# Altium schematic symbol library Sika_revb.SchLib: 143 symbols (part 2 of 3)
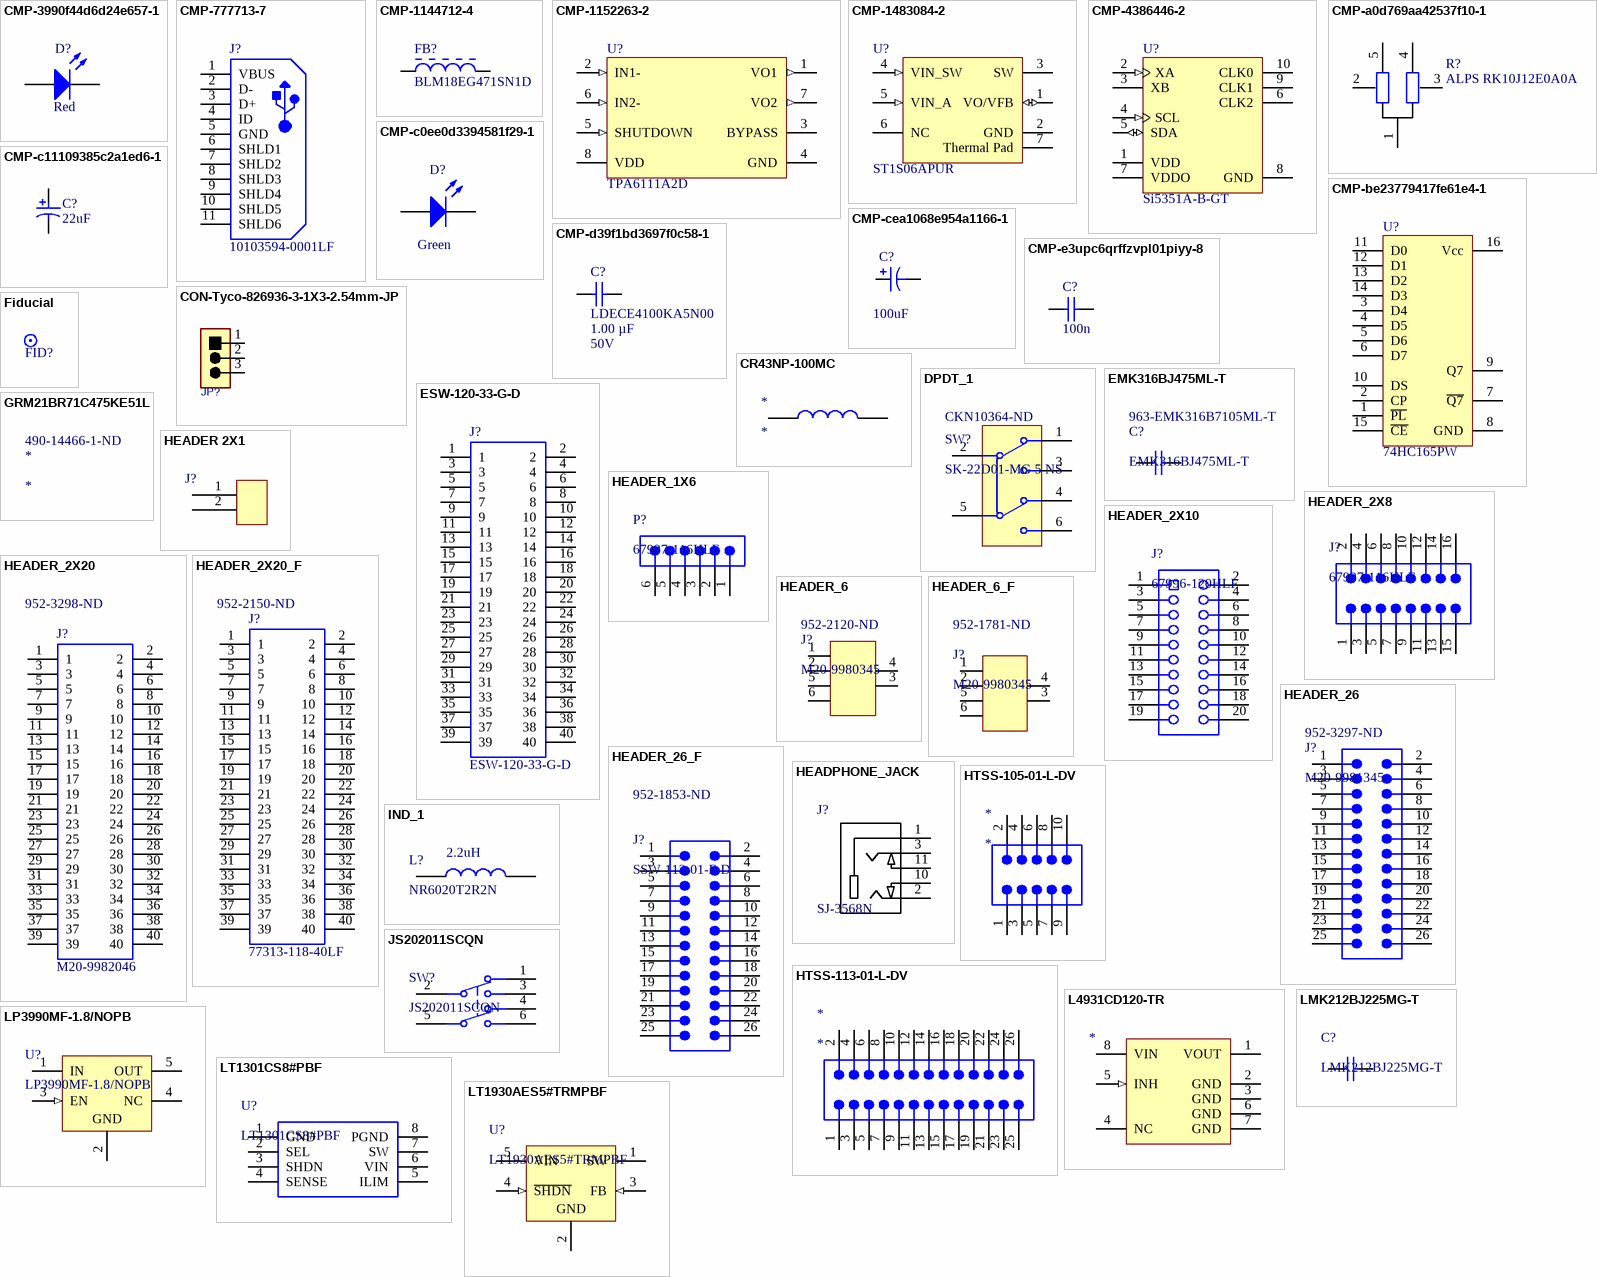
[diagram p5: symbols CMP-3990f44d6d24e657-1 to LT1930AES5#TRMPBF]

## ESW-120-33-G-D
designator J?
PC/104 Connectors 40P SOLDER TAIL 3.2MM PC104; Manufacturer_Name: 3M; Manufacturer_Part_Number: 4P01-2A02-DA; Allied_Number: 70114575; Geometry.Height: 11.2mm; RS Part Number: 8277403; RS Price/Stock: http://uk.rs-online.com/web/p/products/8277403; Allied Price/Stock: https://www.alliedelec.com/3m-4p01-2a02-da/70114575/; Arrow Part Number: 4P01-2A02-DA; Arrow Price/Stock: https://www.arrow.com/en/products/4p01-2a02-da/3m; Datasheet Link: http://multimedia.3m.com/mws/media/729589O/3mtm-conn-for-pc104-embedded-sys-apps-compliantbuscomp-cd2392.pdf; Supplier 1: Digi-Key; Supplier Part Number 1: SAM9012-ND
footprint ESW-120-33-G-D
pins: 1, 2, 3, 4, 5, 6, 7, 8, 9, 10, 11, 12, 13, 14, 15, 16, 17, 18, 19, 20, 21, 22, 23, 24, 25, 26, 27, 28, 29, 30, 31, 32, 33, 34, 35, 36, 37, 38, 39, 40

## Fiducial
designator FID?  (value not drawn)  (no BOM)
PCB fiducial; CustomComponentID: q3ryvo368y0cm8rjqvv4
footprint 2mm (PCB fiducial)

## GRM21BR71C475KE51L
designator *  Supplier Part Number 1: 490-14466-1-ND
CAP CER 4.7UF 16V X7R 0805; Manufacturer: Murata; Manufacturer Part Number: GRM21BR71C475KE51L; Tolerance: 10%; Supplier 1: Digi-Key; Stock 1: 39642; Pricing 1: 1 = 0,21000, 10 = 0,14200, 100 = 0,07210, 500 = 0,04934, 1000 = 0,04365 (USD); RoHS: No; Case/Package: 0805; Capacitance: 4.7uF; Dielectric: X7R; Voltage Rating (DC): 16V; Length: 2mm; Thickness: 1.25mm; Width: 1.25mm; ComponentLink1URL: http://www.farnell.com/datasheets/2189142.pdf?src-supplier=Farnell; ComponentLink1Description: http://www.farnell.com/datasheets/2189142.pdf?src-supplier=Farnell; ComponentLink2URL: http://search.murata.co.jp/Ceramy/image/img/A01X/G101/ENG/GRM21BR71C475KE51-01.pdf?src-supplier=Digi-Key; ComponentLink2Description: http://search.murata.co.jp/Ceramy/image/img/A01X/G101/ENG/GRM21BR71C475KE51-01.pdf?src-supplier=Digi-Key

## HEADER 2X1
designator J?
2.54 MM PITCH
footprint HDR2X1
pins: 1, 2

## HEADER_1X6
designator P?, comment 67997-116HLF
Unshrouded, Pitch 2.54 mm; Supplier 1: Digi-Key; Supplier 2: Mouser; Supplier Part Number 1: 609-3228-ND; Supplier Part Number 2: 649-67997-116HLF
footprint HEADER 1X6 MALE (2.54 MM)
footprint HEADER 1X6 JTAG (2.54 MM)
pins: 1, 2, 3, 4, 5, 6

## HEADER_2X8
designator J?, comment 67997-116HLF
Unshrouded, Pitch 2.54 mm; Supplier 1: Digi-Key; Supplier 2: Mouser; Supplier Part Number 1: 609-3228-ND; Supplier Part Number 2: 649-67997-116HLF
footprint header 16 male (unshrouded)
pins: 1, 2, 3, 4, 5, 6, 7, 8, 9, 10, 11, 12, 13, 14, 15, 16

## HEADER_2X10
designator J?, comment 67996-120HLF
Unshrouded, Pitch 2.54 mm; Supplier 1: Digi-Key; Supplier 2: Mouser; Supplier Part Number 1: 609-3206-ND; Supplier Part Number 2: 649-67996-120HLF
footprint HEADER 20 MALE (2.54 MM)
pins: 1, 2, 3, 4, 5, 6, 7, 8, 9, 10, 11, 12, 13, 14, 15, 16, 17, 18, 19, 20

## HEADER_2X20
designator J?, comment M20-9982046  Supplier Part Number 1: 952-3298-ND
Unshrouded, Pitch 2.54 mm, 6.1 mm Mating distance; Manufacturer_Name: 3M; Manufacturer_Part_Number: 4P01-2A02-DA; Manufacturer: Harwin; Allied_Number: 70114575; Geometry.Height: 11.2mm; Number of Positions: 40; Connector Type: Male Pin; Pitch: 0.1inch; Number of Contacts: 20; Max Current Rating: 3A; Contact Resistance: 25mR; Gender: Male; RS Part Number: 8277403; RS Price/Stock: http://uk.rs-online.com/web/p/products/8277403; Allied Price/Stock: https://www.alliedelec.com/3m-4p01-2a02-da/70114575/; Arrow Part Number: 4P01-2A02-DA; Arrow Price/Stock: https://www.arrow.com/en/products/4p01-2a02-da/3m; Datasheet Link: http://multimedia.3m.com/mws/media/729589O/3mtm-conn-for-pc104-embedded-sys-apps-compliantbuscomp-cd2392.pdf; Manufacturer Part Number: M20-9982046; RoHS: Yes; Mount: Through Hole; Weight: 0.083952oz; Color: Black; Contact Plating: Tin; Housing Material: Nylon; Package Quantity: 100; Number of Rows: 2; Packaging: Bulk; Termination: Solder; Row Spacing: 0.1inch; Contact Mating Length: 0.24inch; ComponentLink1URL: http://www.mouser.com/ds/2/181/Harwin_Product_Catalog_page_207-1131241.pdf?src-supplier=Mouser; ComponentLink1Description: http://www.mouser.com/ds/2/181/Harwin_Product_Catalog_page_207-1131241.pdf?src-supplier=Mouser; ComponentLink2URL: http://cdn.harwin.com/pdfs/60page147.pdf?src-supplier=Digi-Key; ComponentLink2Description: http://cdn.harwin.com/pdfs/60page147.pdf?src-supplier=Digi-Key; ComponentLink3URL: https://cdn.harwin.com/pdfs/M20-998.pdf?src-supplier=Digi-Key; ComponentLink3Description: https://cdn.harwin.com/pdfs/M20-998.pdf?src-supplier=Digi-Key; Supplier 1: Digi-Key; Stock 1: 281; Pricing 1: 1 = 1,40000, 10 = 1,22900, 100 = 1,06040, 500 = 0,86760, 1000 = 0,77120, 5000 = 0,67480, 10000 = 0,64106 (USD); Contact Material: Brass; Housing Color: Black; Min Operating Temperature: -40°C; Max Operating Temperature: 105°C; Orientation: Straight; Length: 50.8mm; Depth: 5.08mm; Radiation Hardening: No; ComponentLink4URL: http://components.arrow.com/part/dataview/0323_00724856?src-supplier=Arrow+Europe; ComponentLink4Description: http://components.arrow.com/part/dataview/0323_00724856?src-supplier=Arrow+Europe; ComponentLink5URL: https://cdn.harwin.com/pdfs/Harwin_PC_Connectors_M20.pdf?src-supplier=Digi-Key; ComponentLink5Description: https://cdn.harwin.com/pdfs/Harwin_PC_Connectors_M20.pdf?src-supplier=Digi-Key; ComponentLink6URL: https://cdn.harwin.com/pdfs/60page147.pdf?src-supplier=Avnet+Europe; ComponentLink6Description: https://cdn.harwin.com/pdfs/60page147.pdf?src-supplier=Avnet+Europe
footprint header2x20 (Footprint not found)
pins: 1, 2, 3, 4, 5, 6, 7, 8, 9, 10, 11, 12, 13, 14, 15, 16, 17, 18, 19, 20, 21, 22, 23, 24, 25, 26, 27, 28, 29, 30, 31, 32, 33, 34, 35, 36, 37, 38, 39, 40

## HEADER_2X20_F
designator J?, comment 77313-118-40LF  Supplier Part Number 1: 952-2150-ND
Unshrouded, Pitch 2.54 mm; Manufacturer_Name: 3M; Manufacturer_Part_Number: 4P01-2A02-DA; Manufacturer: Harwin; Manufacturer Part Number: M20-7832046; Allied_Number: 70114575; Geometry.Height: 11.2mm; Number of Contacts: 40; Current Rating: 3A; Contact Resistance: 20mR; Mating Cycles: 50; Gender: Receptacle; Insulation Resistance: 1MR; Pitch: 2.54mm; Row Spacing: 0.1inch; Hole Diameter: 0.8mm; RS Part Number: 8277403; RS Price/Stock: http://uk.rs-online.com/web/p/products/8277403; Allied Price/Stock: https://www.alliedelec.com/3m-4p01-2a02-da/70114575/; Arrow Part Number: 4P01-2A02-DA; Arrow Price/Stock: https://www.arrow.com/en/products/4p01-2a02-da/3m; Datasheet Link: http://multimedia.3m.com/mws/media/729589O/3mtm-conn-for-pc104-embedded-sys-apps-compliantbuscomp-cd2392.pdf; Supplier 1: Digi-Key; Stock 1: 7661; Pricing 1: 1 = 3,08000, 11 = 2,95182, 110 = 2,46000, 506 = 2,09101, 1001 = 1,78350, 5005 = 1,59900 (USD); RoHS: Yes; Mount: Through Hole; Contact Plating: Tin; Contact Material: Bronze; Color: Black; Material: Glass; Housing Color: Black; Housing Material: Polyamide; Min Operating Temperature: -40°C; Max Operating Temperature: 105°C; Number of Rows: 2; Termination: Solder; Packaging: Rail/Tube; Max Current Rating: 3A; Contact Gender: Female; Package Quantity: 11; Number of Positions: 40; Connector Type: Receptacle; Orientation: Straight; Length: 51.2mm; Lead Pitch: 2.54mm; Depth: 5.04mm; Radiation Hardening: No; REACH SVHC: No SVHC; ComponentLink1URL: https://datasheet.ciiva.com/26852/getdatasheetpartid-499542-26852174.pdf?src-supplier=Verical; ComponentLink1Description: https://datasheet.ciiva.com/26852/getdatasheetpartid-499542-26852174.pdf?src-supplier=Verical; ComponentLink2URL: https://datasheet.ciiva.com/11748/0900766b80dc1d2a-11748805.pdf?src-supplier=RSComponents; ComponentLink2Description: https://datasheet.ciiva.com/11748/0900766b80dc1d2a-11748805.pdf?src-supplier=RSComponents; ComponentLink3URL: https://datasheet.ciiva.com/9479/m20-783-9479864.pdf?src-supplier=Avnet; ComponentLink3Description: https://datasheet.ciiva.com/9479/m20-783-9479864.pdf?src-supplier=Avnet; ComponentLink4URL: https://datasheet.ciiva.com/7639/1836950-7639737.pdf?src-supplier=Element14; ComponentLink4Description: https://datasheet.ciiva.com/7639/1836950-7639737.pdf?src-supplier=Element14; ComponentLink5URL: https://datasheet.ciiva.com/6795/m20-783-6795342.pdf?src-supplier=Digi-Key; ComponentLink5Description: https://datasheet.ciiva.com/6795/m20-783-6795342.pdf?src-supplier=Digi-Key
footprint header2x20_F
pins: 1, 2, 3, 4, 5, 6, 7, 8, 9, 10, 11, 12, 13, 14, 15, 16, 17, 18, 19, 20, 21, 22, 23, 24, 25, 26, 27, 28, 29, 30, 31, 32, 33, 34, 35, 36, 37, 38, 39, 40

## HEADER_6
designator J?, comment M20-9980345  Supplier Part Number 1: 952-2120-ND
Connector Header Through Hole 6 position 0.100" (2.54mm); Manufacturer: Harwin; Manufacturer Part Number: M20-9980346; Number of Contacts: 6; Contact Resistance: 25mR; Current Rating: 3A; Gender: Male; Insulation Resistance: 10GR; Connector Type: Male Pin; Row Spacing: 0.1inch; RoHS: Yes; Mount: Through Hole; Contact Plating: Tin; Color: Black; Contact Material: Bronze; Housing Color: Black; Housing Material: Nylon; Min Operating Temperature: -40°C; Max Operating Temperature: 105°C; Number of Rows: 2; Termination: Solder; Package Quantity: 1000; Packaging: Bag; Max Current Rating: 3A; Number of Positions: 6; Orientation: Straight; Length: 7.62mm; Pitch: 2.54mm; Contact Mating Length: 0.24inch; Depth: 5.08mm; Radiation Hardening: No; REACH SVHC: No SVHC; ComponentLink1URL: https://datasheet.ciiva.com/11745/0900766b81034e61-11745752.pdf?src-supplier=RSComponents; ComponentLink1Description: https://datasheet.ciiva.com/11745/0900766b81034e61-11745752.pdf?src-supplier=RSComponents; ComponentLink2URL: https://datasheet.ciiva.com/26899/getdatasheetpartid-483857-26899433.pdf?src-supplier=Verical; ComponentLink2Description: https://datasheet.ciiva.com/26899/getdatasheetpartid-483857-26899433.pdf?src-supplier=Verical; ComponentLink3URL: https://datasheet.ciiva.com/8046/112195-8046906.pdf?src-supplier=Element14; ComponentLink3Description: https://datasheet.ciiva.com/8046/112195-8046906.pdf?src-supplier=Element14; Supplier 1: Digi-Key; Stock 1: 15404; Pricing 1: 1 = 0,27000, 10 = 0,25900, 100 = 0,18130, 500 = 0,15540, 1000 = 0,12950, 5000 = 0,11100, 10000 = 0,10360 (USD); Weight: 0.125lb; Insulation Material: Polyester; Height: 0.125inch; Width: 0.25inch; ComponentLink4URL: https://datasheet.ciiva.com/6789/91635-6789923.pdf?src-supplier=Newark; ComponentLink4Description: https://datasheet.ciiva.com/6789/91635-6789923.pdf?src-supplier=Newark; ComponentLink5URL: https://datasheet.ciiva.com/11746/0900766b80da602b-11746662.pdf?src-supplier=RSComponents; ComponentLink5Description: https://datasheet.ciiva.com/11746/0900766b80da602b-11746662.pdf?src-supplier=RSComponents; ComponentLink6URL: https://datasheet.ciiva.com/26852/getdatasheetpartid-420465-26852189.pdf?src-supplier=Verical; ComponentLink6Description: https://datasheet.ciiva.com/26852/getdatasheetpartid-420465-26852189.pdf?src-supplier=Verical; ComponentLink7URL: https://datasheet.ciiva.com/6830/m20-998-6830775.pdf?src-supplier=Digi-Key; ComponentLink7Description: https://datasheet.ciiva.com/6830/m20-998-6830775.pdf?src-supplier=Digi-Key; ComponentLink8URL: https://datasheet.ciiva.com/8046/112195-8046904.pdf?src-supplier=Element14; ComponentLink8Description: https://datasheet.ciiva.com/8046/112195-8046904.pdf?src-supplier=Element14
footprint header_6 (2.54 MM)
pins: 1, 2, 3, 4, 5, 6

## HEADER_6_F
designator J?, comment M20-9980345  Supplier Part Number 1: 952-1781-ND
Connector Header Through Hole 6 position 0.100" (2.54mm); Manufacturer: Harwin; Manufacturer Part Number: M20-9980346; Number of Contacts: 6; Contact Resistance: 25mR; Current Rating: 3A; Gender: Male; Insulation Resistance: 10GR; Connector Type: Male Pin; Row Spacing: 0.1inch; Mating Cycles: 50; Hole Diameter: 0.8mm; RoHS: Yes; Mount: Through Hole; Contact Plating: Tin; Color: Black; Contact Material: Bronze; Housing Color: Black; Housing Material: Nylon; Min Operating Temperature: -40°C; Max Operating Temperature: 105°C; Number of Rows: 2; Termination: Solder; Package Quantity: 1000; Packaging: Bag; Max Current Rating: 3A; Number of Positions: 6; Orientation: Straight; Length: 7.62mm; Pitch: 2.54mm; Contact Mating Length: 0.24inch; Depth: 5.08mm; Radiation Hardening: No; REACH SVHC: No SVHC; ComponentLink1URL: https://datasheet.ciiva.com/11745/0900766b81034e61-11745752.pdf?src-supplier=RSComponents; ComponentLink1Description: https://datasheet.ciiva.com/11745/0900766b81034e61-11745752.pdf?src-supplier=RSComponents; ComponentLink2URL: https://datasheet.ciiva.com/26899/getdatasheetpartid-483857-26899433.pdf?src-supplier=Verical; ComponentLink2Description: https://datasheet.ciiva.com/26899/getdatasheetpartid-483857-26899433.pdf?src-supplier=Verical; ComponentLink3URL: https://datasheet.ciiva.com/8046/112195-8046906.pdf?src-supplier=Element14; ComponentLink3Description: https://datasheet.ciiva.com/8046/112195-8046906.pdf?src-supplier=Element14; Weight: 0.125lb; Insulation Material: Polyester; Height: 0.125inch; Width: 0.25inch; ComponentLink4URL: https://datasheet.ciiva.com/6789/91635-6789923.pdf?src-supplier=Newark; ComponentLink4Description: https://datasheet.ciiva.com/6789/91635-6789923.pdf?src-supplier=Newark; ComponentLink5URL: https://datasheet.ciiva.com/11746/0900766b80da602b-11746662.pdf?src-supplier=RSComponents; ComponentLink5Description: https://datasheet.ciiva.com/11746/0900766b80da602b-11746662.pdf?src-supplier=RSComponents; ComponentLink6URL: https://datasheet.ciiva.com/26852/getdatasheetpartid-420465-26852189.pdf?src-supplier=Verical; ComponentLink6Description: https://datasheet.ciiva.com/26852/getdatasheetpartid-420465-26852189.pdf?src-supplier=Verical; ComponentLink7URL: https://datasheet.ciiva.com/6830/m20-998-6830775.pdf?src-supplier=Digi-Key; ComponentLink7Description: https://datasheet.ciiva.com/6830/m20-998-6830775.pdf?src-supplier=Digi-Key; ComponentLink8URL: https://datasheet.ciiva.com/8046/112195-8046904.pdf?src-supplier=Element14; ComponentLink8Description: https://datasheet.ciiva.com/8046/112195-8046904.pdf?src-supplier=Element14; Supplier 1: Digi-Key; Stock 1: 1768; Pricing 1: 1 = 1,13000, 71 = 0,89704, 142 = 0,85803, 568 = 0,70201, 1065 = 0,62400, 5041 = 0,54600, 10011 = 0,51870 (USD); Contact Gender: Female; Lead Pitch: 2.54mm; ComponentLink9URL: https://datasheet.ciiva.com/23592/717230-23592737.pdf?src-supplier=Newark; ComponentLink9Description: https://datasheet.ciiva.com/23592/717230-23592737.pdf?src-supplier=Newark; ComponentLink10URL: https://datasheet.ciiva.com/11748/0900766b80dc1d2a-11748028.pdf?src-supplier=RSComponents; ComponentLink10Description: https://datasheet.ciiva.com/11748/0900766b80dc1d2a-11748028.pdf?src-supplier=RSComponents
footprint header_6_f (2.54 MM)
pins: 1, 2, 3, 4, 5, 6

## HEADER_26
designator J?, comment M20-9981345  Supplier Part Number 1: 952-3297-ND
CONN HEADER 26POS .100 STR 15AU; Manufacturer: Amphenol FCI; Manufacturer Part Number: 67997-226HLF; Number of Contacts: 26; Current Rating: 3A; Voltage Rating: 1.5kV; Insulation Resistance: 5GR; Gender: Male; Connector Type: Male Pin; Pitch: 2.54mm; Row Spacing: 0.1inch; Contact Post Length: 3.05mm; Contact Resistance: 25mR; RoHS: Yes; Mount: Through Hole; Contact Plating: Gold; Contact Material: Bronze; Color: Black; Housing Color: Black; Housing Material: Thermoplastic; Min Operating Temperature: -65°C; Max Operating Temperature: 125°C; Number of Rows: 2; Termination: Solder; Package Quantity: 100; Packaging: Bulk; Contact Gender: Male; Number of Positions: 26; Max Voltage Rating (AC): 1.5kV; Orientation: Straight; Length: 33.02mm; Contact Mating Length: 0.23inch; Depth: 4.83mm; Flammability Rating: UL94 V-0; ComponentLink1URL: https://datasheet.ciiva.com/5151/67996-223434-5151673.pdf?src-supplier=Mouser; ComponentLink1Description: https://datasheet.ciiva.com/5151/67996-223434-5151673.pdf?src-supplier=Mouser; ComponentLink2URL: https://datasheet.ciiva.com/729/67996-729016.pdf?src-supplier=Digi-Key; ComponentLink2Description: https://datasheet.ciiva.com/729/67996-729016.pdf?src-supplier=Digi-Key; ComponentLink3URL: https://datasheet.ciiva.com/16726/67996-16726297.pdf?src-supplier=Avnet+Europe; ComponentLink3Description: https://datasheet.ciiva.com/16726/67996-16726297.pdf?src-supplier=Avnet+Europe; ComponentLink4URL: https://datasheet.ciiva.com/10125/67996-10125053.pdf?src-supplier=Avnet; ComponentLink4Description: https://datasheet.ciiva.com/10125/67996-10125053.pdf?src-supplier=Avnet; Supplier 1: Digi-Key; Stock 1: 2058; Pricing 1: 1 = 0,91000, 10 = 0,80100, 100 = 0,69080, 500 = 0,56520, 1000 = 0,50240, 5000 = 0,43960, 10000 = 0,41762 (USD); Max Current Rating: 3A; ComponentLink5URL: http://www.mouser.com/ds/2/181/Harwin_Product_Catalog_page_207-1131241.pdf?src-supplier=Mouser; ComponentLink5Description: http://www.mouser.com/ds/2/181/Harwin_Product_Catalog_page_207-1131241.pdf?src-supplier=Mouser; ComponentLink6URL: http://components.arrow.com/part/dataview/0323_00725754?src-supplier=Arrow+Europe; ComponentLink6Description: http://components.arrow.com/part/dataview/0323_00725754?src-supplier=Arrow+Europe; ComponentLink7URL: http://www.harwin.com/include/downloads/pdfs/2010PAGE129.PDF?src-supplier=Avnet; ComponentLink7Description: http://www.harwin.com/include/downloads/pdfs/2010PAGE129.PDF?src-supplier=Avnet; ComponentLink8URL: https://cdn.harwin.com/pdfs/60page147.pdf?src-supplier=Avnet+Europe; ComponentLink8Description: https://cdn.harwin.com/pdfs/60page147.pdf?src-supplier=Avnet+Europe; ComponentLink9URL: http://cdn.harwin.com/pdfs/60page147.pdf?src-supplier=Digi-Key; ComponentLink9Description: http://cdn.harwin.com/pdfs/60page147.pdf?src-supplier=Digi-Key; ComponentLink10URL: https://cdn.harwin.com/pdfs/Harwin_PC_Connectors_M20.pdf?src-supplier=Digi-Key; ComponentLink10Description: https://cdn.harwin.com/pdfs/Harwin_PC_Connectors_M20.pdf?src-supplier=Digi-Key
footprint HEADER_26 (Assembly .025" [.64] SQ Post Terminal Strip, 2x13 Pins, Vertical, 2.54mm Pitch, Male)
pins: 1, 2, 3, 4, 5, 6, 7, 8, 9, 10, 11, 12, 13, 14, 15, 16, 17, 18, 19, 20, 21, 22, 23, 24, 25, 26

## HEADER_26_F
designator J?, comment SSW-113-01-F-D  Supplier Part Number 1: 952-1853-ND
CONN HEADER 26POS .100 STR 15AU; Manufacturer: Amphenol FCI; Manufacturer Part Number: 67997-226HLF; Number of Contacts: 26; Current Rating: 3A; Voltage Rating: 1.5kV; Insulation Resistance: 5GR; Gender: Male; Connector Type: Male Pin; Pitch: 2.54mm; Row Spacing: 0.1inch; Contact Post Length: 3.05mm; Max Current Rating: 7.6A; Contact Resistance: 10mR; Mating Cycles: 100; RoHS: Yes; Mount: Through Hole; Contact Plating: Gold; Contact Material: Bronze; Color: Black; Housing Color: Black; Housing Material: Thermoplastic; Min Operating Temperature: -65°C; Max Operating Temperature: 125°C; Number of Rows: 2; Termination: Solder; Package Quantity: 100; Packaging: Bulk; Contact Gender: Male; Number of Positions: 26; Max Voltage Rating (AC): 1.5kV; Orientation: Straight; Length: 33.02mm; Contact Mating Length: 0.23inch; Depth: 4.83mm; Flammability Rating: UL94 V-0; ComponentLink1URL: https://datasheet.ciiva.com/5151/67996-223434-5151673.pdf?src-supplier=Mouser; ComponentLink1Description: https://datasheet.ciiva.com/5151/67996-223434-5151673.pdf?src-supplier=Mouser; ComponentLink2URL: https://datasheet.ciiva.com/729/67996-729016.pdf?src-supplier=Digi-Key; ComponentLink2Description: https://datasheet.ciiva.com/729/67996-729016.pdf?src-supplier=Digi-Key; ComponentLink3URL: https://datasheet.ciiva.com/16726/67996-16726297.pdf?src-supplier=Avnet+Europe; ComponentLink3Description: https://datasheet.ciiva.com/16726/67996-16726297.pdf?src-supplier=Avnet+Europe; ComponentLink4URL: https://datasheet.ciiva.com/10125/67996-10125053.pdf?src-supplier=Avnet; ComponentLink4Description: https://datasheet.ciiva.com/10125/67996-10125053.pdf?src-supplier=Avnet; Height: 8.5mm; Width: 5mm; Lead Free: Lead Free; ComponentLink5URL: https://media.digikey.com/pdf/Data%20Sheets/Sullins%20PDFs/Female_Headers.100_DS.pdf?src-supplier=Digi-Key; ComponentLink5Description: https://media.digikey.com/pdf/Data%20Sheets/Sullins%20PDFs/Female_Headers.100_DS.pdf?src-supplier=Digi-Key; Radiation Hardening: No; ComponentLink6URL: http://components.arrow.com/part/dataview/0323_01325097?src-supplier=Arrow+Europe; ComponentLink6Description: http://components.arrow.com/part/dataview/0323_01325097?src-supplier=Arrow+Europe; ComponentLink7URL: ftp://ftp.samtec.com/webfiles/PDF/SSQ_TH.PDF?src-supplier=Avnet; ComponentLink7Description: ftp://ftp.samtec.com/webfiles/PDF/SSQ_TH.PDF?src-supplier=Avnet; ComponentLink8URL: ftp://ftp.samtec.com/webfiles/PDF/SSQ_TH.PDF?src-supplier=Avnet+Europe; ComponentLink8Description: ftp://ftp.samtec.com/webfiles/PDF/SSQ_TH.PDF?src-supplier=Avnet+Europe; Supplier 1: Digi-Key; Stock 1: 980; Pricing 1: 1 = 2,92000, 17 = 2,80294, 102 = 2,33598, 510 = 1,98561, 1003 = 1,69360, 5015 = 1,51840 (USD); ComponentLink9URL: https://datasheet.ciiva.com/6784/m20-783-6784685.pdf?src-supplier=Digi-Key; ComponentLink9Description: https://datasheet.ciiva.com/6784/m20-783-6784685.pdf?src-supplier=Digi-Key
footprint HEADER_26_F (Assembly .025" [.64] SQ Post Terminal Strip, 2x13 Pins, Vertical, 2.54mm Pitch, Male)
pins: 1, 2, 3, 4, 5, 6, 7, 8, 9, 10, 11, 12, 13, 14, 15, 16, 17, 18, 19, 20, 21, 22, 23, 24, 25, 26

## HEADPHONE_JACK
designator J?, comment SJ-3568N
Conn 3.5MM Stereo Jack F 5 POS Solder RA Thru-Hole 5 Terminal 1 Port; Manufacturer: CUI; Gender: Female; Shielding: Unshielded; Current Rating: 1A; Number of Conductors: 3; Number of Ports: 1; Supplier 1: Digi-Key; Manufacturer Part Number: SJ-3568N; Stock 1: 290; Pricing 1: 1 = 1,53000, 10 = 1,38700, 25 = 1,30200, 50 = 1,24520, 100 = 1,18860, 300 = 1,07540, 600 = 0,99050, 1200 = 0,84900, 2700 = 0,79240 (USD); RoHS: Yes; Mount: Through Hole; Contact Material: Copper Alloy; Contact Plating: Tin; Housing Color: Black; Color: Black; Housing Material: Plastic; Min Operating Temperature: -25°C; Max Operating Temperature: 85°C; Package Quantity: 3000; Termination: Solder; Orientation: Horizontal; Connector Type: Jack; Diameter: 3.5mm; Lead Free: Lead Free; Supplier Part Number 1: 102-5872-ND
footprint *CUI_SJ-3568N
pins: 1, 2, 3, 10, 11

## HTSS-105-01-L-DV
designator *
SAMTEC         HTSS-105-01-L-DV             Board-To-Board Connector, HTSS Series, 10 Contacts, Header, 2.54 mm, Surface Mount, 2 Rows; Gender: Male; Number of Contacts: 10; Max Current Rating: 3A; Pitch: 2.54mm; Supplier 1: Farnell; Manufacturer: Samtec; Manufacturer Part Number: HTSS-105-01-L-DV; Stock 1: 0; Contact Material: Bronze; Contact Plating: Gold; Housing Colour: Natural; Housing Material: Polychlorinated; Min Operating Temperature: -55°C; Max Operating Temperature: 125°C; Number of Rows: 2; Termination: Solder; Packaging: Rail/Tube; Orientation: Vertical; Length: 16.51mm; Depth: 9.27mm; Radiation Hardening: No; REACH SVHC: No SVHC; ComponentLink1URL: http://www.samtec.com/documents/webfiles/pdf/htst.pdf; ComponentLink1Description: http://www.samtec.com/documents/webfiles/pdf/htst.pdf
footprint SMTC-HTSS-105-01-X-DV (High Temp Top Shroud, 2x5 Pins, Vertical, 2.54mm Pitch, Male)
pins: 1, 2, 3, 4, 5, 6, 7, 8, 9, 10

## HTSS-113-01-L-DV
designator *
SAMTEC         HTSS-113-01-L-DV             Board-To-Board Connector, HTSS Series, 26 Contacts, Header, 2.54 mm, Surface Mount, 2 Rows; Number of Contacts: 26; Gender: Male; Pitch: 2.54mm; Supplier 1: Arrow; Manufacturer: Samtec; Manufacturer Part Number: HTSS-113-01-L-DV; Stock 1: 0; Contact Plating: Gold; Contact Material: Bronze; Housing Material: Polychlorinated; Housing Colour: Natural; Min Operating Temperature: -55°C; Max Operating Temperature: 125°C; Number of Rows: 2; Termination: Solder; Orientation: Vertical; Packaging: Rail/Tube; Length: 36.83mm; Depth: 9.27mm; Radiation Hardening: No; REACH SVHC: No SVHC; ComponentLink1URL: ftp://ftp.samtec.com/webfiles/PDF/HTST.PDF; ComponentLink1Description: ftp://ftp.samtec.com/webfiles/PDF/HTST.PDF
footprint SMTC-HTSS-113-01-X-DV (High Temp Top Shroud, 2x13 Pins, Vertical, 2.54mm Pitch, Male)
pins: 1, 2, 3, 4, 5, 6, 7, 8, 9, 10, 11, 12, 13, 14, 15, 16, 17, 18, 19, 20, 21, 22, 23, 24, 25, 26

## IND_1
designator L?, comment NR6020T2R2N  Inductance: 2.2uH
FIXED IND 2.2UH 2.7A 40.8 MOHM; Manufacturer: Taiyo Yuden; Core Material: Ferrite; Self Resonant Frequency: 73MHz; Saturation Current: 3.2A; Tolerance: 30%; Shielding: Shielded; DC Resistance (DCR): 34mR; Test Frequency: 100kHz; Supplier 1: Digi-Key; Manufacturer Part Number: NR6020T2R2N; Stock 1: 7291; Pricing 1: 1 = 0,48000, 10 = 0,42300, 100 = 0,30190, 500 = 0,25358, 1000 = 0,20528 (USD); RoHS: Yes; Mount: Surface Mount; Case/Package: Nonstandard; Min Operating Temperature: -25°C; Max Operating Temperature: 120°C; Packaging: Cut Tape; Package Quantity: 1; Current Rating: 2.7A; Max DC Current: 3.2A; Termination: SMD/SMT; Composition: Wirewound; Inductance Tolerance: 30%; RMS Current (Irms): 2.7A; Length: 0.236inch; Height: 2mm; Width: 6mm; Height - Seated (Max): 0.079inch; Halogen Free: Halogen Free; REACH SVHC: Unknown; ComponentLink1URL: https://datasheet.ciiva.com/8499/nr6020t2r2n-ss-8499327.pdf?src-supplier=Avnet; ComponentLink1Description: https://datasheet.ciiva.com/8499/nr6020t2r2n-ss-8499327.pdf?src-supplier=Avnet; ComponentLink2URL: https://datasheet.ciiva.com/4955/wound04-e-4955336.pdf?src-supplier=Mouser; ComponentLink2Description: https://datasheet.ciiva.com/4955/wound04-e-4955336.pdf?src-supplier=Mouser; ComponentLink3URL: https://datasheet.ciiva.com/1044/wound04-e-1044250.pdf?src-supplier=Digi-Key; ComponentLink3Description: https://datasheet.ciiva.com/1044/wound04-e-1044250.pdf?src-supplier=Digi-Key; ComponentLink4URL: https://datasheet.ciiva.com/1044/wound04-e-1044251.pdf?src-supplier=Digi-Key; ComponentLink4Description: https://datasheet.ciiva.com/1044/wound04-e-1044251.pdf?src-supplier=Digi-Key; ComponentLink5URL: https://datasheet.ciiva.com/1044/wound04-e-1044252.pdf?src-supplier=Digi-Key; ComponentLink5Description: https://datasheet.ciiva.com/1044/wound04-e-1044252.pdf?src-supplier=Digi-Key; ComponentLink6URL: https://datasheet.ciiva.com/8002/wound04-e-8002143.pdf?src-supplier=Element14; ComponentLink6Description: https://datasheet.ciiva.com/8002/wound04-e-8002143.pdf?src-supplier=Element14; Supplier Part Number 1: 587-2071-1-ND
footprint PCB-3woxzswlol7qy9xfr3pv-1
pins: 1, 2

## JS202011SCQN
designator SW?
SWITCH SLIDE DPDT 300MA 6V; Manufacturer: ITT C&K; Actuator Material: Nylon,Polyamide; Contact Resistance: 70mR; Electrical Life: 5000Cycles; Switch Travel: 2mm; Switch Function: On-On; Actuator Type: Standard; Manufacturer Part Number: JS202011SCQN; Mount: Surface Mount; Contact Material: Copper Alloy; Contact Plating: Silver; Housing Material: Nylon; Min Operating Temperature: -20°C; Max Operating Temperature: 85°C; Throw Configuration: DPDT; Max Voltage Rating (DC): 6V; Termination: Gull Wing; Voltage Rating (DC): 6V; Packaging: Tape and Reel; Max Current Rating: 300mA; Contact Current Rating: 300mA; Package Quantity: 1; Current Rating: 300mA; Orientation: Vertical; Length: 9mm; Depth: 7.5mm; Actuator Length: 2mm; Radiation Hardening: No; REACH SVHC: No SVHC; Lead Free: Lead Free; Flammability Rating: UL94 V-2; ComponentLink1URL: https://www.ckswitches.com/media/1422/js.pdf; ComponentLink1Description: https://www.ckswitches.com/media/1422/js.pdf; ComponentLink2URL: http://www.farnell.com/datasheets/1707718.pdf; ComponentLink2Description: http://www.farnell.com/datasheets/1707718.pdf; Supplier 1: Mouser; Supplier Part Number 1: 611-JS202011SCQN
footprint CKCP-JS202011SCQN-6_V (SMD, 6-Leads, Body 9x3.6mm, Pitch 2.5mm)
pins: 1, 2 COM, 3, 4, 5 COM, 6

## L4931CD120-TR
designator *  (value not drawn)
IC REG LDO 12V 0.25A 8SO; Manufacturer: STMicroelectronics; Max Output Current: 250mA; Number of Outputs: 1; Max Input Voltage: 20V; Quiescent Current: 1.6mA; Polarity: Positive; Accuracy: 2%; Output Type: Fixed; Dropout Voltage: 400mV; Input Bias Current: 800uA; Manufacturer Part Number: L4931CD120-TR; Mount: Surface Mount; Case/Package: SO; Number of Pins: 8; Min Operating Temperature: -40°C; Max Operating Temperature: 125°C; Output Voltage: 12V; Package Quantity: 1; Packaging: Tape and Reel; Output Current: 250mA; Number of Regulators: 1; Min Output Voltage: 12V; Output Voltage Accuracy: 2%; Length: 5mm; Height: 1.65mm; Width: 4mm; Radiation Hardening: No; Lead Free: Lead Free; ComponentLink1URL: http://www.st.com/content/ccc/resource/technical/document/datasheet/ff/95/2f/6a/75/70/42/49/CD00000971.pdf/files/CD00000971.pdf/jcr:content/translations/en.CD00000971.pdf; ComponentLink1Description: http://www.st.com/content/ccc/resource/technical/document/datasheet/ff/95/2f/6a/75/70/42/49/CD00000971.pdf/files/CD00000971.pdf/jcr:content/translations/en.CD00000971.pdf; ComponentLink2URL: http://www.st.com/web/en/resource/technical/document/datasheet/CD00000971.pdf; ComponentLink2Description: http://www.st.com/web/en/resource/technical/document/datasheet/CD00000971.pdf; ComponentLink3URL: http://www.st.com/st-web-ui/static/active/en/resource/technical/document/datasheet/CD00000971.pdf; ComponentLink3Description: http://www.st.com/st-web-ui/static/active/en/resource/technical/document/datasheet/CD00000971.pdf; ComponentLink4URL: http://datasheet.iiic.cc/stmicroelectronics/L4931CD120-TR.pdf; ComponentLink4Description: http://datasheet.iiic.cc/stmicroelectronics/L4931CD120-TR.pdf; ComponentLink5URL: http://www.produktinfo.conrad.com/datenblaetter/1100000-1199999/001185821-da-01-en-IC_REG_LDO_12V_L4931CD120_TR_SOIC_8_STM.pdf; ComponentLink5Description: http://www.produktinfo.conrad.com/datenblaetter/1100000-1199999/001185821-da-01-en-IC_REG_LDO_12V_L4931CD120_TR_SOIC_8_STM.pdf; Supplier 1: Mouser; Supplier 2: Digi-Key; Supplier Part Number 1: 511-L4931CD120-TR; Supplier Part Number 2: 497-7761-1-ND
footprint SO8_M (SOIC, 8-Leads, Body 4.9x3.9mm, Pitch 1.27mm, IPC Low Density)
pins: 1 VOUT (power), 2 GND (power), 3 GND (power), 4 NC, 5 INH (in), 6 GND (power), 7 GND (power), 8 VIN (power)

## LMK212BJ225MG-T
designator C?
Multilayer Ceramic Capacitors MLCC - SMD/SMT 2.2uF 10Volts X5R 20% 0805 STD; Manufacturer: Taiyo Yuden; Voltage Rating: 10V; Manufacturer Part Number: LMK212BJ225MG-T; Mount: Surface Mount; Case/Package: 0805; Weight: 0.000194oz; Case Code (Imperial): 0805; Case Code (Metric): 2012; Min Operating Temperature: -55°C; Max Operating Temperature: 85°C; Tolerance: 20%; Capacitance: 2.2uF; Packaging: Tape and Reel; Voltage Rating (DC): 10V; Dielectric: X5R; Termination: SMD/SMT; Composition: Ceramic; Voltage: 10V; Length: 2mm; Height: 1.25mm; Width: 1.25mm; Thickness: 0.053inch; Depth: 1.25mm; Radiation Hardening: No; Lead Free: Lead Free; Halogen Free: Halogen Free; ComponentLink1URL: https://www.verical.com/server-webapp/html/getDatasheet?partID=638379; ComponentLink1Description: https://www.verical.com/server-webapp/html/getDatasheet?partID=638379; Supplier 1: Mouser; Supplier Part Number 1: 963-LMK212BJ225MG-T
footprint C0805
pins: 1, 2

## LP3990MF-1.8/NOPB
designator U?
LDO Regulator Pos 1.8V 0.15A 5-Pin SOT-23 T/R; Manufacturer: TI National Semiconductor; Number of Outputs: 1; Quiescent Current: 80uA; Min Input Voltage: 2V; Max Input Voltage: 6V; Output Current: 150mA; Dropout Voltage: 120mV; Polarity: Positive; Accuracy: 1.5%; Output Type: Fixed; Manufacturer Part Number: LP3990MF-1.8/NOPB; RoHS: Yes; Mount: Surface Mount; Case/Package: SOT-23; Number of Pins: 5; Contact Plating: Tin; Min Operating Temperature: -40°C; Max Operating Temperature: 125°C; Output Voltage: 1.8V; Packaging: Tape and Reel; Max Output Current: 150mA; Package Quantity: 1000; Nominal Output Voltage: 1.8V; Max Supply Voltage: 6V; Min Supply Voltage: 2V; Number of Regulators: 1; Max Output Voltage: 1.8V; Termination: SMD/SMT; Output Voltage Accuracy: 1.5%; Length: 2.92mm; Height: 1.02mm; Width: 1.6mm; Radiation Hardening: No; REACH SVHC: No SVHC; Lead Free: Lead Free; ComponentLink1URL: http://www.jameco.com/Jameco/Products/ProdDS/1339241.pdf?src-supplier=Jameco; ComponentLink1Description: http://www.jameco.com/Jameco/Products/ProdDS/1339241.pdf?src-supplier=Jameco; ComponentLink2URL: http://www.ti.com/lit/ds/symlink/lp3990.pdf?src-supplier=Avnet+Europe; ComponentLink2Description: http://www.ti.com/lit/ds/symlink/lp3990.pdf?src-supplier=Avnet+Europe; ComponentLink3URL: http://www.farnell.com/datasheets/1882742.pdf?src-supplier=Element14; ComponentLink3Description: http://www.farnell.com/datasheets/1882742.pdf?src-supplier=Element14; ComponentLink4URL: http://www.ti.com/general/docs/lit/getliterature.tsp?genericPartNumber=LP3990&&fileType=pdf&src-supplier=Element14; ComponentLink4Description: http://www.ti.com/general/docs/lit/getliterature.tsp?genericPartNumber=LP3990&&fileType=pdf&src-supplier=Element14; ComponentLink5URL: http://www.ti.com/lit/ds/symlink/lp3990.pdf?src-supplier=Digi-Key; ComponentLink5Description: http://www.ti.com/lit/ds/symlink/lp3990.pdf?src-supplier=Digi-Key; ComponentLink6URL: https://www.verical.com/server-webapp/html/getDatasheet?partID=55119&src-supplier=Verical; ComponentLink6Description: https://www.verical.com/server-webapp/html/getDatasheet?partID=55119&src-supplier=Verical; Supplier 1: Mouser; Supplier 2: Digi-Key; Supplier Part Number 1: 926-3990MF-1.8/NOPB; Supplier Part Number 2: LP3990MF-1.8/NOPBCT-ND
footprint SOT23 (SOT23, 5-Leads, Body 3.05x1.75mm, Pitch 0.95mm, IPC Medium Density)
pins: 1 IN (power), 2 GND (power), 3 EN (in), 4 NC, 5 OUT (power)

## LT1301CS8#PBF
designator U?
IC REG BOOST PROG 0.75A 8SOIC; Manufacturer: Analog Devices / Linear Technology; Output Voltage: 12V; Number of Outputs: 1; Synchronous Rectifier: No; Output Type: Adjustable,Fixed; Output Current: 120mA; Efficiency: 89%; Min Input Voltage: 1.8V; Switching Frequency: 185kHz; Max Input Voltage: 10V; Manufacturer Part Number: LT1301CS8#PBF; Mount: Surface Mount; Case/Package: SOIC; Number of Pins: 8; Min Operating Temperature: 0°C; Max Operating Temperature: 70°C; Package Quantity: 100; Packaging: Rail/Tube; Nominal Output Voltage: 12V; Topology: Boost; Lead Free: Lead Free; REACH SVHC: No SVHC; Supplier 1: Digi-Key; Supplier Part Number 1: LT1301CS8#PBF-ND
footprint SOIC127P599X175-8N
pins: 1 GND, 2 SEL, 3 SHDN, 4 SENSE, 5 ILIM, 6 VIN, 7 SW, 8 PGND

## LT1930AES5#TRMPBF
designator U?
IC REG MULT CONFIG ADJ 1A TSOT23; Manufacturer: Analog Devices / Linear Technology; Output Voltage: 34V; Min Input Voltage: 2.6V; Switching Frequency: 2.2MHz; Number of Outputs: 1; Output Type: Adjustable; Synchronous Rectifier: No; Max Input Voltage: 16V; Topology: Boost,Flyback,SEPIC; Manufacturer Part Number: LT1930AES5#TRMPBF; Case/Package: TSOT; Number of Pins: 5; Min Operating Temperature: -40°C; Max Operating Temperature: 85°C; Output Current: 1A; Packaging: Tape and Reel; Package Quantity: 1; Max Output Voltage: 34V; Max Output Current: 1A; Max Supply Voltage: 16V; Min Supply Voltage: 2.6V; Frequency: 2.2MHz; Termination: SMD/SMT; Length: 3.1mm; Height: 1.3mm; Width: 1.75mm; Lead Free: Lead Free; REACH SVHC: No SVHC; Supplier 1: Digi-Key; Supplier Part Number 1: LT1930AES5#TRMPBFCT-ND
footprint LT-S5-5-TSOT-23_M (SOT23, 5-Leads, Body 2.90x1.63mm, Pitch 0.95mm, IPC Low Density)
pins: 1 SW (power) "Switch Pin. Connect inductor/diode here. Minimize trace at this pin to reduce EMI.", 2 GND (power) "Ground Pin. Tie directly to local ground plane.", 3 FB (in) "Feedback Pin.", 4 ~{SHDN} (in) "Shutdown Pin.", 5 VIN (power) "Input Supply Pin. Must be locally bypassed."

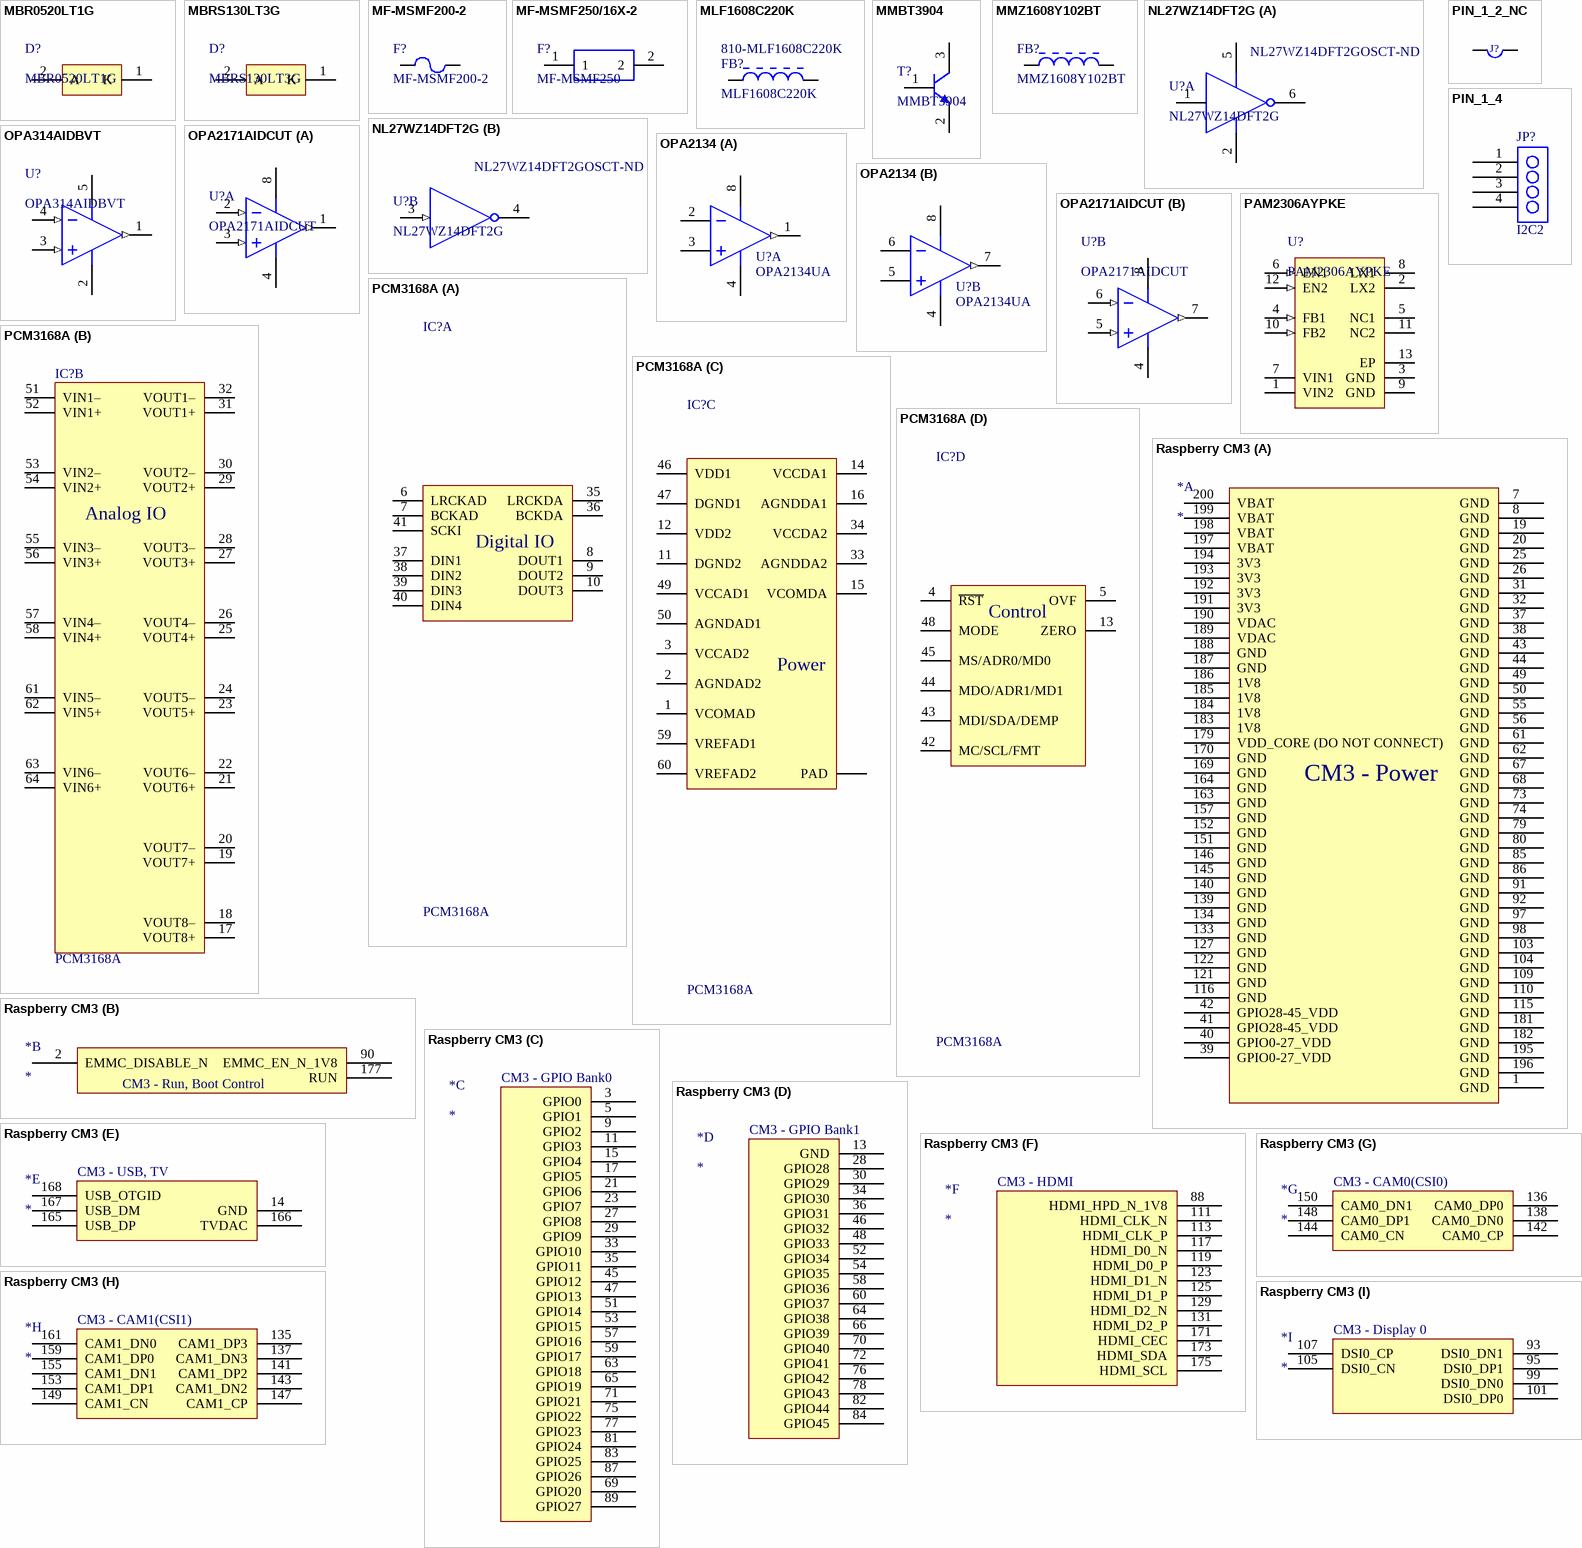
[diagram p2: symbols MBR0520LT1G to Raspberry CM3]

## MBR0520LT1G
designator D?
DIODE SCHOTTKY 20V 500MA SOD123; Manufacturer: ON Semiconductor; Element Configuration: Single; Max Surge Current: 5.5A; Forward Voltage: 385mV; Max Reverse Leakage Current: 250uA; Polarity: Standard; Manufacturer Part Number: MBR0520LT1G; Case/Package: SOD-123-2; Number of Pins: 2; Contact Plating: Matte,Tin; Min Operating Temperature: -65°C; Max Operating Temperature: 125°C; Package Quantity: 3000; Packaging: Tape and Reel; Average Rectified Current: 500mA; Peak Non-Repetitive Surge Current: 5.5A; Max Forward Surge Current (Ifsm): 5.5A; Current Rating: 500mA; Max Reverse Voltage (DC): 20V; Voltage Rating (DC): 20V; Output Current: 500mA; Forward Current: 500mA; Peak Reverse Current: 250uA; Max Repetitive Reverse Voltage (Vrrm): 20V; Termination: SMD/SMT; Length: 2.69mm; Height: 1.12mm; Width: 1.6mm; Radiation Hardening: No; Lead Free: Lead Free; REACH SVHC: No SVHC; ComponentLink1URL: http://www.onsemi.com/pub/Collateral/MBR0520LT1-D.PDF; ComponentLink1Description: http://www.onsemi.com/pub/Collateral/MBR0520LT1-D.PDF; ComponentLink2URL: http://www.onsemi.cn/pub_link/Collateral/MBR0520LT1-D.PDF; ComponentLink2Description: http://www.onsemi.cn/pub_link/Collateral/MBR0520LT1-D.PDF; ComponentLink3URL: https://www.distrelec.biz/Web/Downloads/25/_e/sy600925_e.pdf?mime=application%2Fpdf; ComponentLink3Description: https://www.distrelec.biz/Web/Downloads/25/_e/sy600925_e.pdf?mime=application%2Fpdf; ComponentLink4URL: http://www.farnell.com/datasheets/1708257.pdf; ComponentLink4Description: http://www.farnell.com/datasheets/1708257.pdf; ComponentLink5URL: https://www.alliedelec.com/m/d/79527eb50e6c3fe26815b6d503556ecd.pdf; ComponentLink5Description: https://www.alliedelec.com/m/d/79527eb50e6c3fe26815b6d503556ecd.pdf; ComponentLink6URL: http://www.mouser.com/ds/2/308/MBR0520LT1-D-94265.pdf; ComponentLink6Description: http://www.mouser.com/ds/2/308/MBR0520LT1-D-94265.pdf; Supplier 1: Digi-Key; Supplier 2: Mouser; Supplier Part Number 1: MBR0520LT1GOSCT-ND; Supplier Part Number 2: 863-MBR0520LT1G
footprint ONSC-SOD-123-2-425-04_V (SOD, 2-Leads, Body 2.69x1.6mm)
pins: 1 K, 2 A

## MBRS130LT3G
designator D?
DIODE SCHOTTKY 30V 2A SMB; Manufacturer: ON Semiconductor; Polarity: Standard; Current Rating: 1A; Max Surge Current: 40A; Max Reverse Leakage Current: 1mA; Element Configuration: Single; Forward Voltage: 395mV; Manufacturer Part Number: MBRS130LT3G; Case/Package: SMB; Number of Pins: 2; Contact Plating: Matte,Tin; Min Operating Temperature: -65°C; Max Operating Temperature: 125°C; Packaging: Tape and Reel; Voltage Rating (DC): 30V; Output Current: 1A; Package Quantity: 1; Average Rectified Current: 2A; Max Forward Surge Current (Ifsm): 40A; Max Reverse Voltage (DC): 30V; Forward Current: 2A; Peak Reverse Current: 1mA; Max Repetitive Reverse Voltage (Vrrm): 30V; Peak Non-Repetitive Surge Current: 40A; Termination: SMD/SMT; Length: 0.181inch; Height: 0.09inch; Width: 0.156inch; Radiation Hardening: No; Lead Free: Lead Free; REACH SVHC: No SVHC; Halogen Free: Halogen Free; Supplier 1: Digi-Key; Supplier Part Number 1: MBRS130LT3GOSDKR-ND
footprint ONSC-SMB-2-403A-03_H_V (Molded, 2-Leads, Body 4.6x3.95mm)
pins: 1 K, 2 A

## MF-MSMF200-2
designator F?
PSU_PTC RESETTABLE 2.00A 8V 1812; Manufacturer: Bourns; Max Current Rating: 40A; Power Dissipation: 800mW; Hold Current: 2A; Trip Current: 4A; Resistance: 80mR; Time to Trip: 3s; Approvals: CSA,TUV,UL; Manufacturer Part Number: MF-MSMF200-2; Mount: PCB,Surface Mount; Case/Package: 1812; Case Code (Metric): 4532; Case Code (Imperial): 1812; Number of Terminals: 2; Terminal Material: Gold; Min Operating Temperature: -40°C; Max Operating Temperature: 85°C; Current Rating: 40A; Package Quantity: 2000; Packaging: Tape and Reel; Operating Supply Voltage: 8V; Voltage Rating: 8V; Termination: SMD/SMT; Max Power Dissipation: 800mW; Voltage Rating (DC): 8V; Length: 4.73mm; Height: 0.85mm; Width: 3.41mm; Radiation Hardening: No; REACH SVHC: No SVHC; Lead Free: Lead Free; Supplier 1: Mouser; Supplier Part Number 1: 652-MF-MSMF200-2
footprint DIOC4732X08N (Chip Diode, 2-Leads, Body 4,73x3,24mm, IPC Medium Density)
pins: 1, 2

## MF-MSMF250/16X-2
designator F?, comment MF-MSMF250
PTC Resettable Fuse 2.5A(hold) 5A(trip) 16V 100A 1.2W 5s 0.015Ohm SMD Solder Pad 1812 T/R; Manufacturer: Bourns; Manufacturer Part Number: MF-MSMF250/16X-2; Resistance: 100mR; Approvals: CSA,TUV,UL; Mount: PCB,Surface Mount; Case/Package: 1812; Case Code (Metric): 4532; Case Code (Imperial): 1812; Number of Terminals: 2; Contact Plating: Gold; Min Operating Temperature: -40°C; Max Operating Temperature: 85°C; Package Quantity: 1500; Packaging: Tape and Reel; Max Current Rating: 100A; Power Dissipation: 1.2W; Hold Current: 2.5A; Trip Current: 5A; Current Rating: 100A; Voltage Rating: 16V; Termination: SMD/SMT; Voltage Rating (DC): 16V; Time to Trip: 5s; Length: 4.73mm; Height: 1.6mm; Width: 3.41mm; Radiation Hardening: No; REACH SVHC: No SVHC; ComponentLink1URL: http://www.bourns.com/data/global/PDFs/MFMSMF.pdf; ComponentLink1Description: http://www.bourns.com/data/global/PDFs/MFMSMF.pdf; ComponentLink2URL: http://www.onlinecomponents.com/productFiles/mf-BO/mfmsmf.pdf; ComponentLink2Description: http://www.onlinecomponents.com/productFiles/mf-BO/mfmsmf.pdf; ComponentLink3URL: http://www.bourns.com/docs/Product-Datasheets/mfmsmf.pdf; ComponentLink3Description: http://www.bourns.com/docs/Product-Datasheets/mfmsmf.pdf; ComponentLink4URL: https://www.distrelec.biz/Web/Downloads/_t/ds/MF-MSMF-series_eng_tds.pdf?mime=application%2Fpdf; ComponentLink4Description: https://www.distrelec.biz/Web/Downloads/_t/ds/MF-MSMF-series_eng_tds.pdf?mime=application%2Fpdf; ComponentLink5URL: https://www.bourns.com/docs/Product-Datasheets/mfmsmf.pdf; ComponentLink5Description: https://www.bourns.com/docs/Product-Datasheets/mfmsmf.pdf; ComponentLink6URL: https://www.alliedelec.com/m/d/cf35a02888a9c5f02c699b5f7c4f475e.pdf; ComponentLink6Description: https://www.alliedelec.com/m/d/cf35a02888a9c5f02c699b5f7c4f475e.pdf; ComponentLink7URL: http://www.farnell.com/datasheets/2038616.pdf; ComponentLink7Description: http://www.farnell.com/datasheets/2038616.pdf; ComponentLink8URL: http://www.produktinfo.conrad.com/datenblaetter/1000000-1099999/001055646-da-01-en-SICH_PTC_RESET_MF_MSMF250_16X_2__2_5A16V.pdf; ComponentLink8Description: http://www.produktinfo.conrad.com/datenblaetter/1000000-1099999/001055646-da-01-en-SICH_PTC_RESET_MF_MSMF250_16X_2__2_5A16V.pdf; Supplier 1: Digi-Key; Supplier Part Number 1: MF-MSMF250/16X-2CT-ND
footprint FUSC4632X160N
pins: 1, 2

## MLF1608C220K
designator FB?  Supplier Part Number 1: 810-MLF1608C220K
Inductor RF Chip Shielded Multi-Layer 22uH 10% 1MHz 20Q-Factor Ferrite 2mA 1.7Ohm DCR 0603 Punched Paper T/R; Manufacturer: TDK; DC Resistance (DCR): 1.7R; Self Resonant Frequency: 38MHz; Q Factor: 20; Supplier 1: Mouser; Manufacturer Part Number: MLF1608C220K; Stock 1: 4476; Pricing 1: 1 = 0,18000, 10 = 0,13300, 50 = 0,13300, 100 = 0,11900, 1000 = 0,08800, 10000 = 0,05400 (USD); RoHS: Yes; Mount: Surface Mount; Case/Package: 0603; Core Material: Ferrite; Case Code (Metric): 1608; Case Code (Imperial): 0603; Min Operating Temperature: -55°C; Max Operating Temperature: 85°C; Inductance: 22uH; Tolerance: 10%; Current Rating: 2mA; Shielding: Shielded; Test Frequency: 1MHz; Max DC Current: 2mA; Package Quantity: 4000; Packaging: Tape and Reel; Inductance Tolerance: 10%; DC Current: 2mA; Military Standard: Not; Termination: SMD/SMT; Length: 1.6mm; Height: 0.8mm; Width: 0.031inch; Depth: 0.95mm; Radiation Hardening: No; Lead Free: Lead Free; REACH SVHC: No SVHC; ComponentLink1URL: https://datasheet.ciiva.com/3866/print-detail-pdf-phplangenpart-nomlf1608c220kta00nreimp-unit-xmhz-3866343.pdf?src-supplier=Arrow; ComponentLink1Description: https://datasheet.ciiva.com/3866/print-detail-pdf-phplangenpart-nomlf1608c220kta00nreimp-unit-xmhz-3866343.pdf?src-supplier=Arrow; ComponentLink2URL: https://datasheet.ciiva.com/15986/201mlky-15986807.pdf?src-supplier=Onlinecomponents.com; ComponentLink2Description: https://datasheet.ciiva.com/15986/201mlky-15986807.pdf?src-supplier=Onlinecomponents.com; ComponentLink3URL: https://datasheet.ciiva.com/15160/getdatasheetpartid-93919-15160318.pdf?src-supplier=Verical; ComponentLink3Description: https://datasheet.ciiva.com/15160/getdatasheetpartid-93919-15160318.pdf?src-supplier=Verical; ComponentLink4URL: https://datasheet.ciiva.com/30489/0900766b811c0228-30489727.pdf?src-supplier=RSComponents; ComponentLink4Description: https://datasheet.ciiva.com/30489/0900766b811c0228-30489727.pdf?src-supplier=RSComponents; ComponentLink5URL: https://datasheet.ciiva.com/8045/321058-8045399.pdf?src-supplier=Element14; ComponentLink5Description: https://datasheet.ciiva.com/8045/321058-8045399.pdf?src-supplier=Element14
footprint r0603
pins: 1, 2

## MMBT3904
designator T?
TRANS NPN 40V 0.2A SOT-23; Manufacturer: ON Semiconductor / Fairchild; Max Collector Current: 200mA; Collector Base Voltage (VCBO): 60V; Emitter Base Voltage (VEBO): 6V; Power Dissipation: 350mW; Frequency: 300MHz; hFE Min: 100; Number of Elements: 1; Element Configuration: Single; Collector Emitter Saturation Voltage: 300mV; Manufacturer Part Number: MMBT3904; Mount: Surface Mount; Case/Package: SOT-23; Number of Pins: 3; Weight: 0.03g; Contact Plating: Matte,Tin; Min Operating Temperature: -55°C; Max Operating Temperature: 150°C; Packaging: Tape and Reel; Collector Emitter Voltage (VCEO): 40V; Polarity: NPN; Collector Emitter Breakdown Voltage: 40V; Package Quantity: 1; Max Power Dissipation: 350mW; Transition Frequency: 300MHz; Max Breakdown Voltage: 40V; Gain Bandwidth Product: 300MHz; Voltage Rating (DC): 40V; Max Frequency: 300MHz; Current Rating: 200mA; Termination: SMD/SMT; Length: 0.25inch; Height: 0.25inch; Width: 0.25inch; Radiation Hardening: No; REACH SVHC: No SVHC; Lead Free: Lead Free; ComponentLink1URL: https://www.fairchildsemi.com/package-drawings/MA/MA03B.pdf; ComponentLink1Description: https://www.fairchildsemi.com/package-drawings/MA/MA03B.pdf; ComponentLink2URL: http://www.farnell.com/datasheets/1922793.pdf; ComponentLink2Description: http://www.farnell.com/datasheets/1922793.pdf; ComponentLink3URL: http://www.fairchildsemi.com/ds/MM/MMBT3904.pdf; ComponentLink3Description: http://www.fairchildsemi.com/ds/MM/MMBT3904.pdf; ComponentLink4URL: https://www.verical.com/server-webapp/html/getDatasheet?partID=110107; ComponentLink4Description: https://www.verical.com/server-webapp/html/getDatasheet?partID=110107; ComponentLink5URL: http://www.fairchildsemi.com/ds/2N/2N3904.pdf; ComponentLink5Description: http://www.fairchildsemi.com/ds/2N/2N3904.pdf; ComponentLink6URL: https://www.fairchildsemi.com/datasheets/MM/MMBT3904.pdf; ComponentLink6Description: https://www.fairchildsemi.com/datasheets/MM/MMBT3904.pdf; Supplier 1: Digi-Key; Supplier Part Number 1: MMBT3904LT1GOSCT-ND
footprint ONSC-SOT-23-3-318-08_V (SOT23, 3-Leads, Body 2.92x1.3mm, Pitch 0.95mm)
pins: 1 B, 2 E, 3 C

## MMZ1608Y102BT
designator FB?
TDK         MMZ1608Y102BT             FERRITE BEAD, 0.5OHM, 400MA, 0603; Impedance: 1kR; Tolerance: 25%; DC Resistance (DCR): 500mR; Manufacturer: TDK; Manufacturer Part Number: MMZ1608Y102BT; Case/Package: 0603; Number of Pins: 2; Case Code (Metric): 1608; Case Code (Imperial): 0603; Min Operating Temperature: -55°C; Max Operating Temperature: 125°C; Max DC Current: 400mA; Packaging: Cut Tape; Termination: SMD/SMT; Length: 1.6mm; Height: 0.8mm; Depth: 0.8mm; REACH SVHC: No SVHC; ComponentLink1URL: http://www.farnell.com/datasheets/55159.pdf; ComponentLink1Description: http://www.farnell.com/datasheets/55159.pdf; ComponentLink2URL: http://uk.rs-online.com/webdocs/1537/0900766b81537342.pdf; ComponentLink2Description: http://uk.rs-online.com/webdocs/1537/0900766b81537342.pdf; Supplier 1: Digi-Key; Supplier Part Number 1: 445-1552-1-ND
footprint C0603
pins: 1, 2